# Altium footprint library 22154600.PcbLib: 1 footprints
Each footprint in its own frame and in the unit in brackets; x right, y up, seen from the top. Pads: shape width x height; smd on the part's side, far side on the other; paste and mask are expansions set on the pad; w line width, h text height; cw(c..) or ccw(c..) is an arc to the next point about the centre after c.
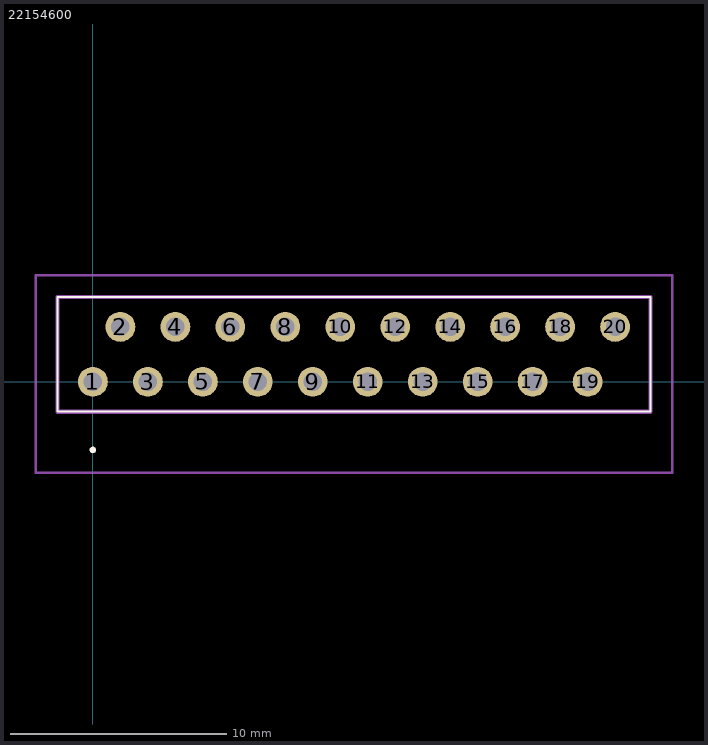
[diagram p0: the footprint, top view; thin cyan lines are the x and y axes]

## 22154600 [mm]
pads (20):
  round 1.381 hole 0.85: 1(0,0) 2(1.27,2.54) 3(2.54,0) 4(3.81,2.54) 5(5.08,0) 6(6.35,2.54) 7(7.62,0) 8(8.89,2.54) 9(10.16,0) 10(11.43,2.54) 11(12.7,0) 12(13.97,2.54) 13(15.24,0) 14(16.51,2.54) 15(17.78,0) 16(19.05,2.54) 17(20.32,0) 18(21.59,2.54) 19(22.86,0) 20(24.13,2.54)
Top Overlay:
  lines w0.1: -1.635,-1.38 -1.635,3.92 25.765,3.92 25.765,-1.38 -1.635,-1.38
  lines w0.2: 0,-3.2 ccw(c0,-3.15) 0,-3.1 ; 0,-3.2 cw(c0,-3.15) 0,-3.1 ; 0,-3.2 ccw(c0,-3.15) 0,-3.1
Mechanical 15:
  lines w0.2: -1.635,-1.38 -1.635,3.92 25.765,3.92 25.765,-1.38 -1.635,-1.38
Mechanical 20:
  lines w0.1: -2.635,-4.2 -2.635,4.92 26.765,4.92 26.765,-4.2 -2.635,-4.2
3D body "2-215460-0.stp": height 6.31, standoff -2.46, extent -1.6,-1.27 25.73,3.73